# Altium schematic symbol library Sensor.SchLib: 18 symbols
Pins are listed as number, name and electrical type; pins without a type are passive.

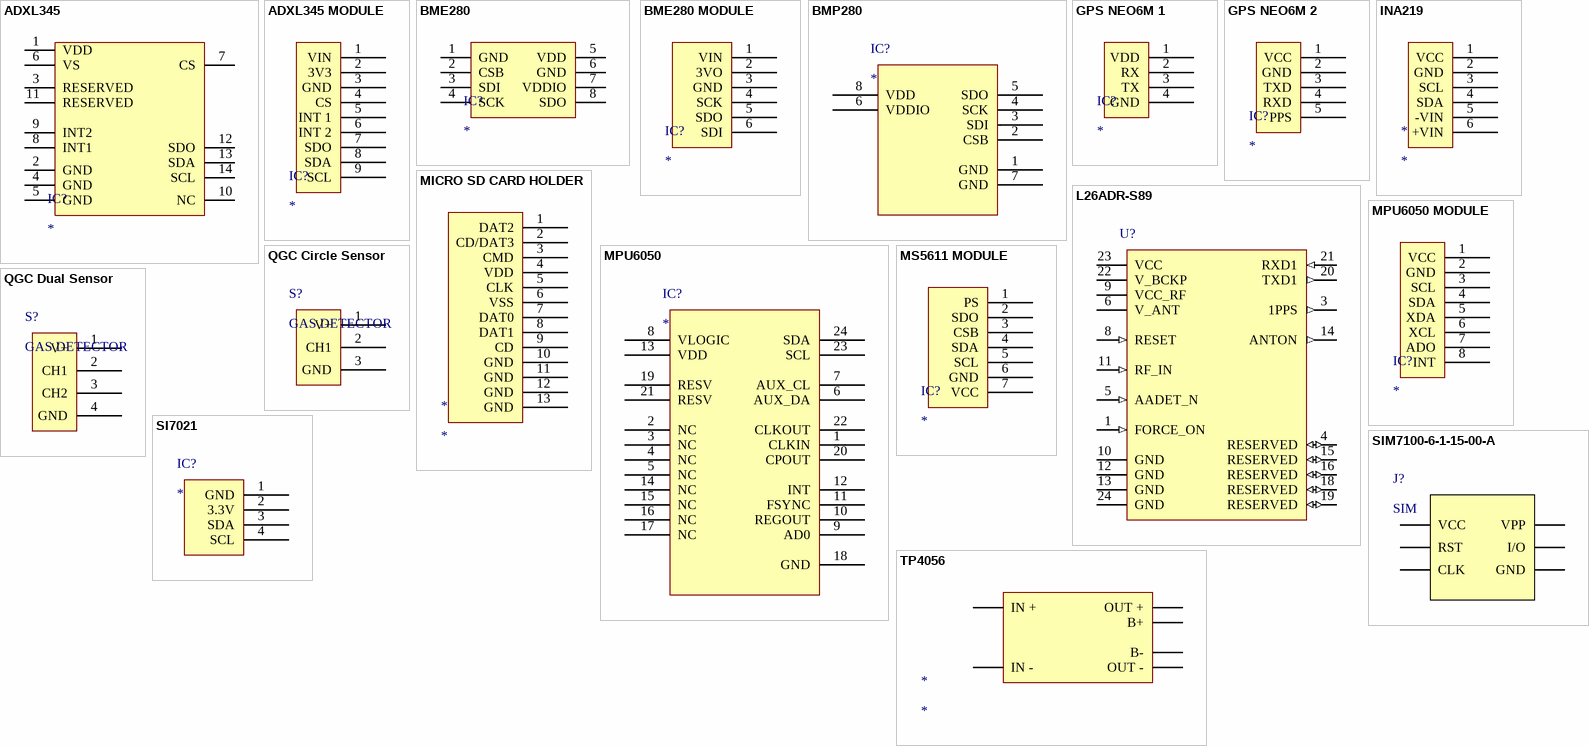
[diagram p0: symbols ADXL345 to TP4056]

## ADXL345
designator IC?
footprint ADXL345
pins: 1 VDD, 2 GND, 3 RESERVED, 4 GND, 5 GND, 6 VS, 7 CS, 8 INT1, 9 INT2, 10 NC, 11 RESERVED, 12 SDO, 13 SDA, 14 SCL

## ADXL345 MODULE
designator IC?
footprint ADXL345 MODULE
pins: 1 VIN, 2 3V3, 3 GND, 4 CS, 5 INT 1, 6 INT 2, 7 SDO, 8 SDA, 9 SCL

## BME280
designator IC?
footprint BME280
pins: 1 GND, 2 CSB, 3 SDI, 4 SCK, 5 VDD, 6 GND, 7 VDDIO, 8 SDO

## BME280 MODULE
designator IC?
footprint BME280 MODULE
pins: 1 VIN, 2 3VO, 3 GND, 4 SCK, 5 SDO, 6 SDI

## BMP280
designator IC?
footprint BMP280
pins: 1 GND, 2 CSB, 3 SDI, 4 SCK, 5 SDO, 6 VDDIO, 7 GND, 8 VDD

## GPS NEO6M 1
designator IC?
footprint NEO6M MODULE 1
pins: 1 VDD, 2 RX, 3 TX, 4 GND

## GPS NEO6M 2
designator IC?
footprint NEO6M MODULE 2
pins: 1 VCC, 2 GND, 3 TXD, 4 RXD, 5 PPS

## INA219
designator *
footprint INA219
pins: 1 VCC, 2 GND, 3 SCL, 4 SDA, 5 -VIN, 6 +VIN

## L26ADR-S89
designator U?  (value not drawn)
Navigation BeiDou, Galileo, GLONASS, GPS, GNSS Transceiver Module 1.561GHz, 1.575GHz, 1.602GHz Antenna Not Included Surface Mount; Manufacturer: Quectel Wireless Solutions; Designed by: TURGUT; Supplier 1: Digi-Key; Manufacturer Part Number: L26ADR-S89; RoHS: No; Pricing 1: 1=23,33000, 10=21,53200, 25=19,73800, 100=18,24280 (USD); Supplier Part Number 1: 2958-L26ADR-S89CT-ND
footprint L26ADR-S89
pins: 1 FORCE_ON (in), 3 1PPS (out), 4 RESERVED (io), 5 AADET_N (in), 6 V_ANT (power), 8 RESET (in), 9 VCC_RF (power), 10 GND (power), 11 RF_IN (in), 12 GND (power), 13 GND (power), 14 ANTON (out), 15 RESERVED (io), 16 RESERVED (io), 18 RESERVED (io), 19 RESERVED (io), 20 TXD1 (out), 21 RXD1 (in), 22 V_BCKP (power), 23 VCC (power), 24 GND (power)

## MICRO SD CARD HOLDER
designator *
footprint MICRO SD CARD HOLDER
pins: 1 DAT2, 2 CD/DAT3, 3 CMD, 4 VDD, 5 CLK, 6 VSS, 7 DAT0, 8 DAT1, 9 CD, 10 GND, 11 GND, 12 GND, 13 GND

## MPU6050
designator IC?
IC-6050 SENSOR MOTION QFN24
footprint QFN (QFN, 24-Leads, Body 4,00x4,00mm, Pitch 0,50mm, Thermal Pad 2,70x2,60mm, IPC Medium Density)
pins: 1 CLKIN, 2 NC, 3 NC, 4 NC, 5 NC, 6 AUX_DA, 7 AUX_CL, 8 VLOGIC, 9 AD0, 10 REGOUT, 11 FSYNC, 12 INT, 13 VDD, 14 NC, 15 NC, 16 NC, 17 NC, 18 GND, 19 RESV, 20 CPOUT, 21 RESV, 22 CLKOUT, 23 SCL, 24 SDA

## MPU6050 MODULE
designator IC?
footprint MPU6050 MODULE
pins: 1 VCC, 2 GND, 3 SCL, 4 SDA, 5 XDA, 6 XCL, 7 ADO, 8 INT

## MS5611 MODULE
designator IC?
footprint MS5611 MODULE
pins: 1 PS, 2 SDO, 3 CSB, 4 SDA, 5 SCL, 6 GND, 7 VCC

## QGC Circle Sensor
designator S?, comment GAS DETECTOR
GAS DETECTOR, ANALOG TO-39, GAS
footprint TO-39 CIRCLE (GAS DETECTOR)
pins: 1 V+, 2 CH1, 3 GND

## QGC Dual Sensor
designator S?, comment GAS DETECTOR
GAS DETECTOR, ANALOG TO-39, GAS
footprint TO-39 DUAL (GAS DETECTOR)
pins: 1 V+, 2 CH1, 3 CH2, 4 GND

## SI7021
designator IC?
footprint SI7021
pins: 1 GND, 2 3.3V, 3 SDA, 4 SCL

## SIM7100-6-1-15-00-A
designator J?, comment SIM
Memory Card Connectors Micro SIM Card Connector - Push-Push Type, 6 Pin, SMT, 1.50mm Profile; MP: SIM7100-6-1-15-00-A; MF: Global Connector Technology; Package: None; Availability: Unavailable; SnapEDA_Link: https://www.snapeda.com/parts/SIM7100-6-1-15-00-A/Global%20Connector%20Technology/view-part/449163/?ref=snap; Price: None; Value: *; ComponentLink1Description: Özdisan; ComponentLink1URL: https://ozdisan.com/konnektor-ve-baglanti-elemanlari/hafiza-konnektorleri/pc-kart-soketleri/L-KLS1-SIM-064-62P-H1
footprint GCT_SIM7100-6-1-15-00-A_REVC
pins: C1 VCC (power), C2 RST (power), C3 CLK (power), C5 GND (power), C6 VPP (power), C7 I/O (power)

## TP4056
designator *
footprint TP4056
pins: + IN +, - IN -, B+, B-, O+ OUT +, O- OUT -